# EAGLE library part PIC10F204 (library ads4)
Microchip PIC 10F204/206 microcontroller
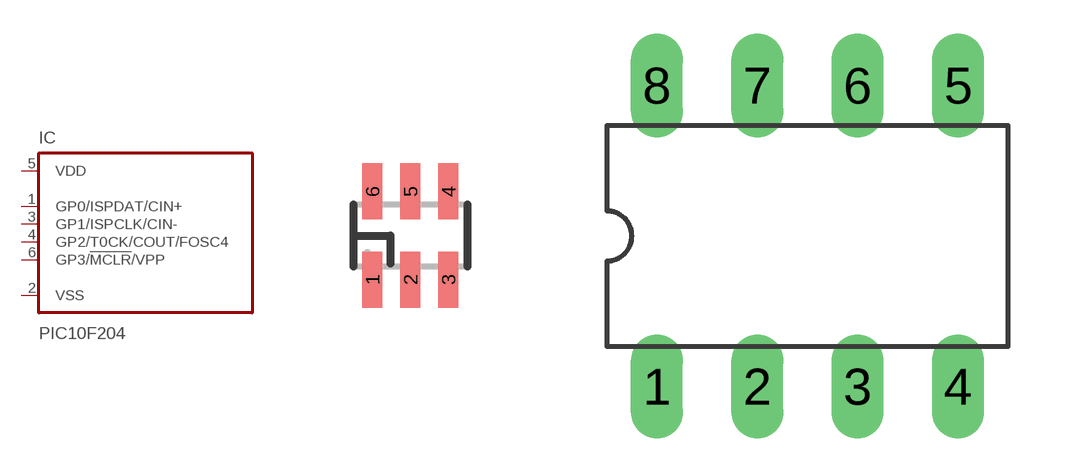
[diagram p51: symbol with the pads of SOT23-6; footprints SOT23-6, DIL08]

Designator prefix IC

## PIC10F204OTG  [SOT23-6]
1  GP0/ISPDAT/CIN+
2  VSS  pwr
3  GP1/ISPCLK/CIN-
4  GP2/T0CK/COUT/FOSC4
5  VDD  pwr
6  GP3/!MCLR!/VPP

## PIC10F204PG  [DIL08]
2  VDD  pwr
3  GP2/T0CK/COUT/FOSC4
4  GP1/ISPCLK/CIN-
5  GP0/ISPDAT/CIN+
7  VSS  pwr
8  GP3/!MCLR!/VPP

## Footprint SOT23-6 (pad centres in mm)
SOT23-6 package This is the DBV6 package from Texas Instruments. It differs from the one in the Eagle libraries (there are two versions in ref-packages.lbr) in that the pad dimensions are 0.5mm x 1.4mm, as in the TI recommendation. The pin spacing is 0.95mm, and the package body has nominal dimensions 2.9mm long by 1.6mm wide.
smd 0.5 x 1.4: 1 -0.95,-1.1; 2 0,-1.1; 3 0.95,-1.1; 4 0.95,1.1; 5 0,1.1; 6 -0.95,1.1

## Footprint DIL08 (pad centres in mm)
8-pin Dual-In Line (copied from 74xx-us.lbr)
drill 0.813 long: 1 -3.81,-3.81; 2 -1.27,-3.81; 3 1.27,-3.81; 4 3.81,-3.81; 5 3.81,3.81; 6 1.27,3.81; 7 -1.27,3.81; 8 -3.81,3.81